# Altium footprint library Switches.PcbLib: 1 footprints
Each footprint in its own frame and in the unit in brackets; x right, y up, seen from the top. Pads: shape width x height; smd on the part's side, far side on the other; paste and mask are expansions set on the pad; w line width, h text height; cw(c..) or ccw(c..) is an arc to the next point about the centre after c.
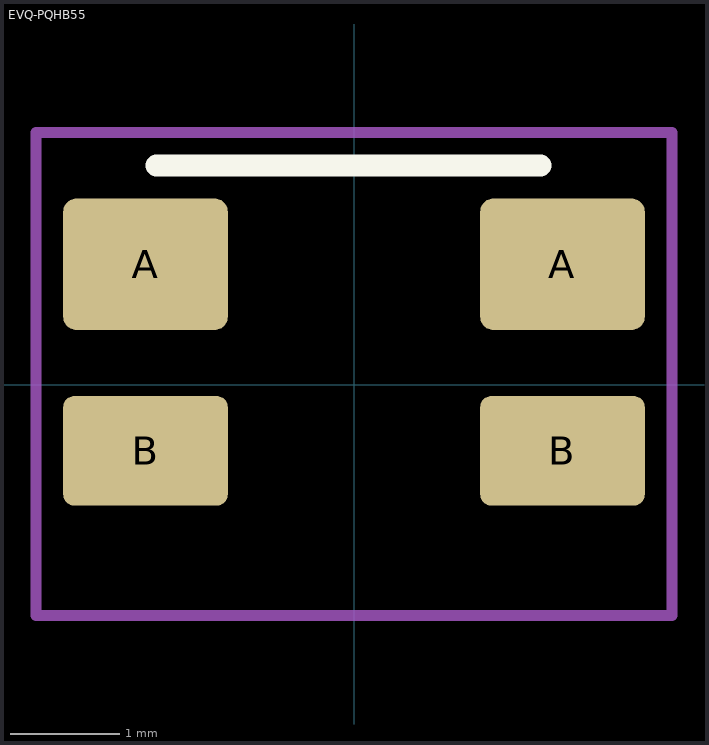
[diagram p0: the footprint, top view; thin cyan lines are the x and y axes]

## EVQ-PQHB55 [mm]
height 2.4
pads (4):
  rrect20% 1.5x1.2 smd paste-0.03: A(-1.9,1.1) A(1.9,1.1)
  rrect20% 1.5x1 smd paste-0.03: B(-1.9,-0.6) B(1.9,-0.6)
Top Overlay:
  lines w0.2: -1.8,2 1.7,2
Mechanical 15:
  lines w0.1: -2.9,-2.1 -2.9,2.3 2.9,2.3 2.9,-2.1 -2.9,-2.1
Assembly:
  lines w0.1: -2.9,-2.1 2.9,-2.1 2.9,2.3 -2.9,2.3 -2.9,-2.1
  text ".Designator" at -2.1,-0.3 h1.1
3D body "EVQP7-JA-01P.STEP": height 1.35, standoff 0, extent -2.35,-1.9 2.35,1.65